# Altium footprint library TSOT23-8.PcbLib: 1 footprints
Each footprint in its own frame and in the unit in brackets; x right, y up, seen from the top. Pads: shape width x height; smd on the part's side, far side on the other; paste and mask are expansions set on the pad; w line width, h text height; cw(c..) or ccw(c..) is an arc to the next point about the centre after c.
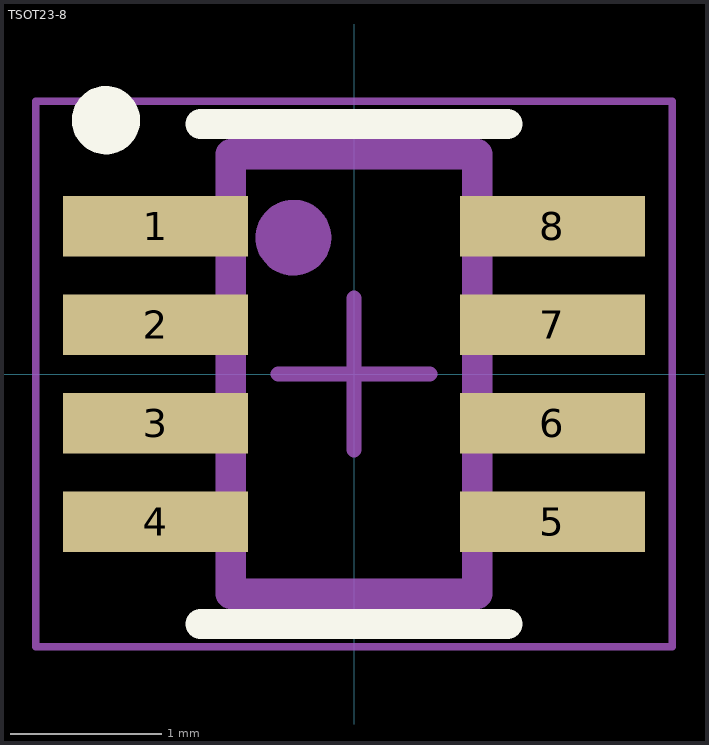
[diagram p0: the footprint, top view; thin cyan lines are the x and y axes]

## TSOT23-8 [mm]
height 1
pads (8):
  rect 1.22x0.4 smd: 1(-1.31,0.975) 2(-1.31,0.325) 3(-1.31,-0.325) 4(-1.31,-0.975) 5(1.31,-0.975) 6(1.31,-0.325) 7(1.31,0.325) 8(1.31,0.975)
Top Overlay:
  circle w0.25: c-1.637,1.675 r0.1
  lines w0.2: -1.013,-1.65 1.013,-1.65 ; -1.013,1.65 1.013,1.65
Mechanical 7:
  circle w0.25: c-0.4,0.9 r0.125
  lines w0.2: -0.813,-1.45 -0.813,1.45 0.813,1.45 0.813,-1.45 -0.813,-1.45
Mechanical 15:
  lines w0.05: -2.1,-1.8 -2.1,1.8 2.1,1.8 2.1,-1.8 -2.1,-1.8
  lines w0.1: -0.5,0 0.5,0 ; 0,-0.5 0,0.5
3D body "TSOT-23-8.STEP": height 1, standoff 0, extent -1.4,-1.45 1.4,1.45